# Altium footprint library 电容.PcbLib: 18 footprints (part 2 of 2)
Each footprint in its own frame and in the unit in brackets; x right, y up, seen from the top. Pads: shape width x height; smd on the part's side, far side on the other; paste and mask are expansions set on the pad; w line width, h text height; cw(c..) or ccw(c..) is an arc to the next point about the centre after c.
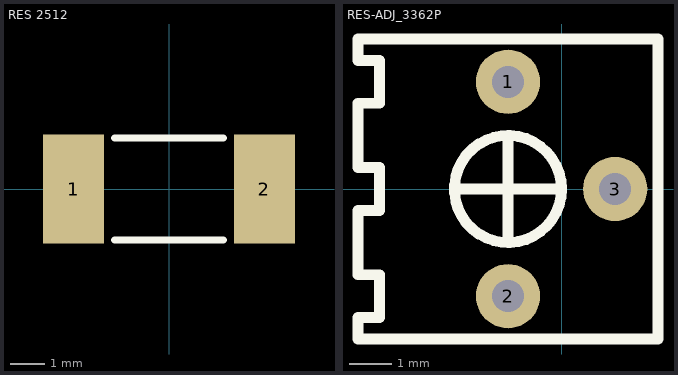
[diagram p1: the footprints below, top view; thin cyan lines are the x and y axes]

## RES 2512 [mm] "Chip Resistor; Body 6.3 x 3.2 mm (LxW typ)"
height 0.6
pads (2):
  rect 1.8x3.2 smd: 1(-2.8,0) 2(2.8,0)
Top Overlay:
  lines w0.2: -1.6,-1.5 1.6,-1.5 ; -1.6,1.5 1.6,1.5

## RES-ADJ_3362P [mil]
pads (3):
  round 60 hole 30: 1(-50,100) 2(-50,-100) 3(50,0)
Top Overlay:
  circle w10: c-50,0 r50
  lines w10: -100,0 0,0 ; -50,-50 -50,50 ; -190,-140 90,-140 90,140 -190,140 -190,120 -170,120 -170,80 -190,80 -190,20 -170,20 -170,-20 -190,-20 -190,-80 -170,-80 -170,-120 -190,-120 -190,-140